# EAGLE library part RFHIC-1F5500 (library 1A-meinLib)
Wideband Amplifier5..1000MHz, Gain = 18, Pout > 30dB, Power = 12VDC, RFHIC
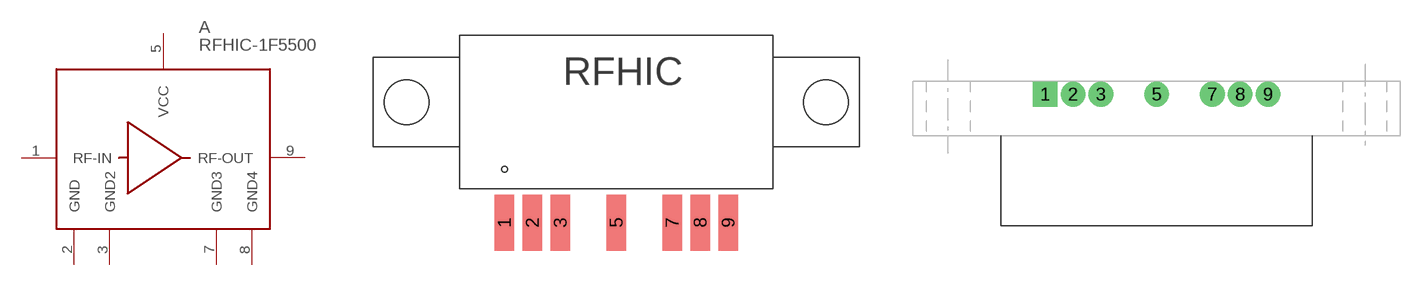
[diagram p58: symbol with the pads of RFHIC-1F5500; footprints RFHIC-1F5500, RFHIC-1F5500-DURCHKONTAKT]

Designator prefix A

## RFHIC-1F5500  [RFHIC-1F5500]
1  RF-IN  in
2  GND  pas
3  GND2  pas
5  VCC  pas
7  GND3  pas
8  GND4  pas
9  RF-OUT  out

## RFHIC-1F5500B  [RFHIC-1F5500-DURCHKONTAKT]
Pads as for RFHIC-1F5500

## Footprint RFHIC-1F5500 (pad centres in mm)
smd 1.778 x 5.08: 1 -10.16,-10.922; 2 -7.62,-10.922; 3 -5.08,-10.922; 5 0,-10.922; 7 5.08,-10.922; 8 7.62,-10.922; 9 10.16,-10.922

## Footprint RFHIC-1F5500-DURCHKONTAKT (pad centres in mm)
drill 1.5 square: 1 -10.16,0
drill 1.5 round: 2 -7.62,0; 3 -5.08,0; 5 0,0; 7 5.08,0; 8 7.62,0; 9 10.16,0